# EAGLE library part ENCODER_RGB_SWITCH (library Hornet UFC 020a)
RGB Switched Rotary Encoder With Switch EC12PRGBSDVBF-D-25K-24-24C-6108-6H Common Anode
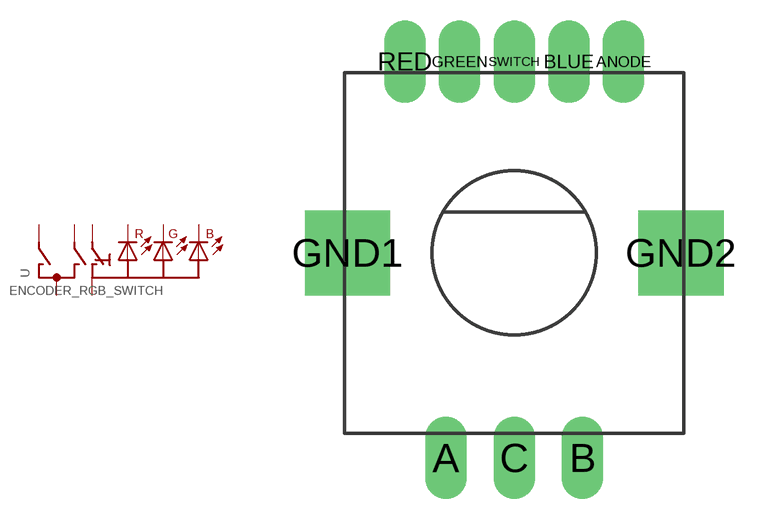
[diagram p4: symbol with the pads of ENCODER_RGB; footprint ENCODER_RGB]

Designator prefix -

## ENCODER_RGB_SWITCHTHROUGHHOLE  [ENCODER_RGB]
A  A  pas
ANODE  VCC
B  B  pas
BLUE  LED_B
C  C  pas
GREEN  LED_G
RED  LED_R
SWITCH  E

## Footprint ENCODER_RGB (pad centres in mm)
RGB Switched Rotary Encoder With Switch EC12PRGBSDVBF-D-25K-24-24C-6108-6H Common Anode
drill 1 long: A -2.5,-7.5; B 2.5,-7.5; C 0,-7.5
drill 1 pad 1.27 long: ANODE 4,7; BLUE 2,7; GREEN -2,7; RED -4,7; SWITCH 0,7
drill 2.1 square: GND1 -6.1,0; GND2 6.1,0